# EAGLE library part LTC6802-1 (library LTC6802)
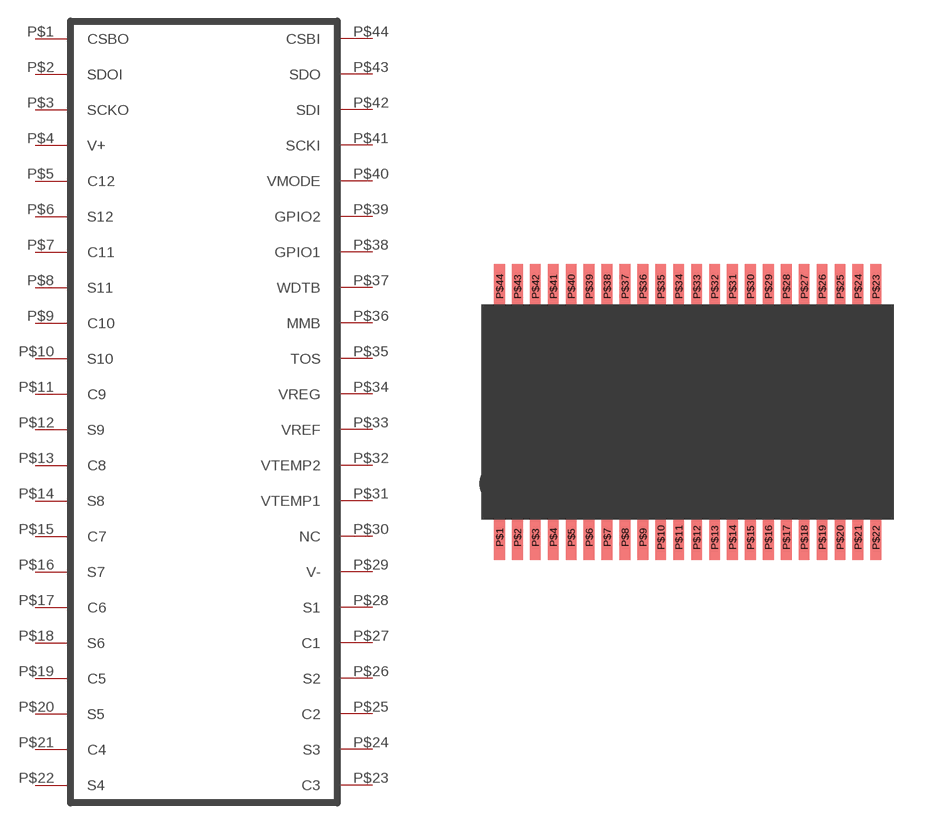
[diagram p0: symbol with the pads of SSOP48; footprint SSOP48]

Designator prefix -

## LTC6802-1  [SSOP48]
P$1  CSBO
P$2  SDOI
P$3  SCKO
P$4  V+
P$5  C12
P$6  S12
P$7  C11
P$8  S11
P$9  C10
P$10  S10
P$11  C9
P$12  S9
P$13  C8
P$14  S8
P$15  C7
P$16  S7
P$17  C6
P$18  S6
P$19  C5
P$20  S5
P$21  C4
P$22  S4
P$23  C3
P$24  S3
P$25  C2
P$26  S2
P$27  C1
P$28  S1
P$29  V-
P$30  NC
P$31  VTEMP1
P$32  VTEMP2
P$33  VREF
P$34  VREG
P$35  TOS
P$36  MMB
P$37  WDTB
P$38  GPIO1
P$39  GPIO2
P$40  VMODE
P$41  SCKI
P$42  SDI
P$43  SDO
P$44  CSBI

## Footprint SSOP48 (pad centres in mm)
smd 0.3 x 1.25: P$1 0,0.5; P$2 0.5,0.5; P$3 1,0.5; P$4 1.5,0.5; P$5 2,0.5; P$6 2.5,0.5; P$7 3,0.5; P$8 3.5,0.5; P$9 4,0.5; P$10 4.5,0.5; P$11 5,0.5; P$12 5.5,0.5; P$13 6,0.5; P$14 6.5,0.5; P$15 7,0.5; P$16 7.5,0.5; P$17 8,0.5; P$18 8.5,0.5; P$19 9,0.5; P$20 9.5,0.5; P$21 10,0.5; P$22 10.5,0.5; P$23 10.5,7.5; P$24 10,7.5; P$25 9.5,7.5; P$26 9,7.5; P$27 8.5,7.5; P$28 8,7.5; P$29 7.5,7.5; P$30 7,7.5; P$31 6.5,7.5; P$32 6,7.5; P$33 5.5,7.5; P$34 5,7.5; P$35 4.5,7.5; P$36 4,7.5; P$37 3.5,7.5; P$38 3,7.5; P$39 2.5,7.5; P$40 2,7.5; P$41 1.5,7.5; P$42 1,7.5; P$43 0.5,7.5; P$44 0,7.5